# Altium footprint library 640457-2.PcbLib: 2 footprints
Each footprint in its own frame and in the unit in brackets; x right, y up, seen from the top. Pads: shape width x height; smd on the part's side, far side on the other; paste and mask are expansions set on the pad; w line width, h text height; cw(c..) or ccw(c..) is an arc to the next point about the centre after c.
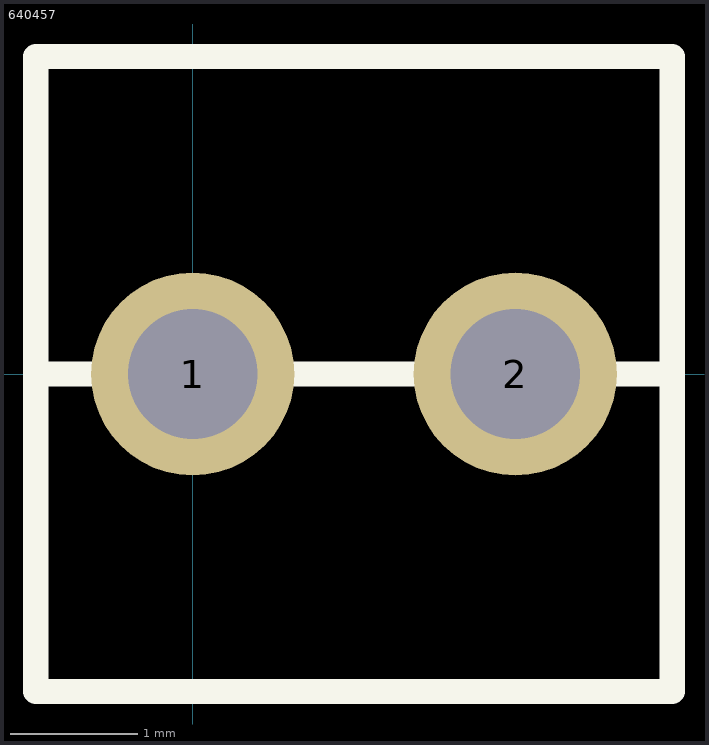
[diagram p0: the footprints below, top view; thin cyan lines are the x and y axes]

## 640457 [mm]
pads (2):
  round 1.6 hole 1.02: 1(0,0) 2(2.54,0)
Top Overlay:
  lines w0.2: -1.235,0 1.34,0 ; 1.2,0 3.775,0 ; 3.775,0 3.775,-2.5 -1.235,-2.5 -1.235,2.5 3.775,2.5 3.775,0

## PCBComponent_1 [mm]